# EAGLE library part AXP209 (library AXP209)
Enhanced single Cell Li-Battery and Power System Management IC
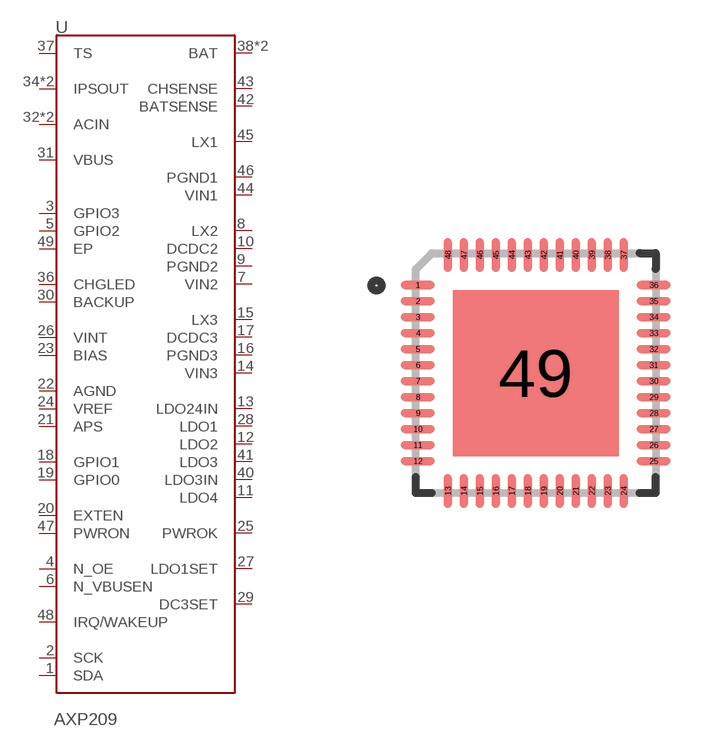
[diagram p0: symbol with the pads of QFN40P600X600X80-49N; footprint QFN40P600X600X80-49N]

Designator prefix U

## AXP209 (AVAILABILITY: Unavailable; DESCRIPTION: Enhanced single Cell Li-Battery and Power System Management IC; MF: X-Powers Limited; MP: AXP209; PACKAGE: Package Analog Devices; PRICE: None)  [QFN40P600X600X80-49N]
1  SDA
2  SCK  in
3  GPIO3
4  N_OE  in
5  GPIO2
6  N_VBUSEN  in
7  VIN2  pwr
8  LX2
9  PGND2  pwr
10  DCDC2  in
11  LDO4  out
12  LDO2  out
13  LDO24IN  pwr
14  VIN3  pwr
15  LX3
16  PGND3  pwr
17  DCDC3  in
18  GPIO1
19  GPIO0
20  EXTEN  out
21  APS  pwr
22  AGND  pwr
23  BIAS
24  VREF  out
25  PWROK  out
26  VINT  pwr
27  LDO1SET  in
28  LDO1  out
29  DC3SET  in
30  BACKUP
31  VBUS  pwr
32  ACIN  pwr
33  ACIN  pwr
34  IPSOUT
35  IPSOUT
36  CHGLED  out
37  TS  in
38  BAT  pwr
39  BAT  pwr
40  LDO3IN  out
41  LDO3  in
42  BATSENSE  in
43  CHSENSE  out
44  VIN1  pwr
45  LX1
46  PGND1  pwr
47  PWRON  in
48  IRQ/WAKEUP
49  EP  pwr

## Footprint QFN40P600X600X80-49N (pad centres in mm)
smd 0.85 x 0.2: 1 -2.95,2.2; 2 -2.95,1.8; 3 -2.95,1.4; 4 -2.95,1; 5 -2.95,0.6; 6 -2.95,0.2; 7 -2.95,-0.2; 8 -2.95,-0.6; 9 -2.95,-1; 10 -2.95,-1.4; 11 -2.95,-1.8; 12 -2.95,-2.2; 25 2.95,-2.2; 26 2.95,-1.8; 27 2.95,-1.4; 28 2.95,-1; 29 2.95,-0.6; 30 2.95,-0.2; 31 2.95,0.2; 32 2.95,0.6; 33 2.95,1; 34 2.95,1.4; 35 2.95,1.8; 36 2.95,2.2
smd 0.2 x 0.85: 13 -2.2,-2.95; 14 -1.8,-2.95; 15 -1.4,-2.95; 16 -1,-2.95; 17 -0.6,-2.95; 18 -0.2,-2.95; 19 0.2,-2.95; 20 0.6,-2.95; 21 1,-2.95; 22 1.4,-2.945; 23 1.8,-2.95; 24 2.2,-2.95; 37 2.2,2.95; 38 1.8,2.95; 39 1.4,2.95; 40 1,2.95; 41 0.6,2.95; 42 0.2,2.95; 43 -0.2,2.95; 44 -0.6,2.95; 45 -1,2.95; 46 -1.4,2.95; 47 -1.8,2.95; 48 -2.2,2.95
smd 4.15 x 4.15: 49 0,0